# Altium schematic symbol library Res_Yageo_RT1206BRD0710KL_eec.SchLib: 1 symbol
Pins are listed as number, name and electrical type; pins without a type are passive.

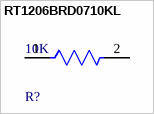
[diagram p0: symbol RT1206BRD0710KL]

## RT1206BRD0710KL
designator R?, comment 10K
pins: 1, 2